# EAGLE library part STM8S003 (library mcu)
package sop20
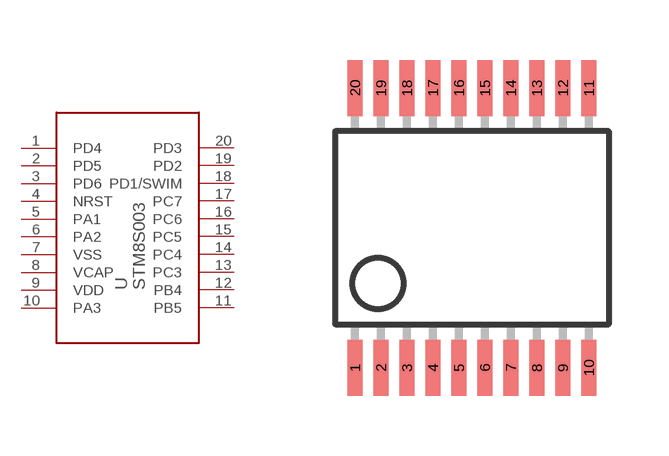
[diagram p1: symbol with the pads of SSOP20; footprint SSOP20]

Designator prefix U

## STM8S003  [SSOP20]
1  PD4
2  PD5
3  PD6
4  NRST
5  PA1
6  PA2
7  VSS
8  VCAP
9  VDD
10  PA3
11  PB5
12  PB4
13  PC3
14  PC4
15  PC5
16  PC6
17  PC7
18  PD1/SWIM
19  PD2
20  PD3

## Footprint SSOP20 (pad centres in mm)
Small Shrink Outline Package 20-Pin (210-MIL) SSOP Source: http://www.cypress.com .. 38-12025_0P_V.pdf
smd 0.38 x 1.4: 1 -2.925,-3.5; 2 -2.275,-3.5; 3 -1.625,-3.5; 4 -0.975,-3.5; 5 -0.325,-3.5; 6 0.325,-3.5; 7 0.975,-3.5; 8 1.625,-3.5; 9 2.275,-3.5; 10 2.925,-3.5; 11 2.925,3.5; 12 2.275,3.5; 13 1.625,3.5; 14 0.975,3.5; 15 0.325,3.5; 16 -0.325,3.5; 17 -0.975,3.5; 18 -1.625,3.5; 19 -2.275,3.5; 20 -2.925,3.5